# Altium footprint library ESP32-PicoDK.PcbLib: 20 footprints (part 1 of 2)
Each footprint in its own frame and in the unit in brackets; x right, y up, seen from the top. Pads: shape width x height; smd on the part's side, far side on the other; paste and mask are expansions set on the pad; w line width, h text height; cw(c..) or ccw(c..) is an arc to the next point about the centre after c.
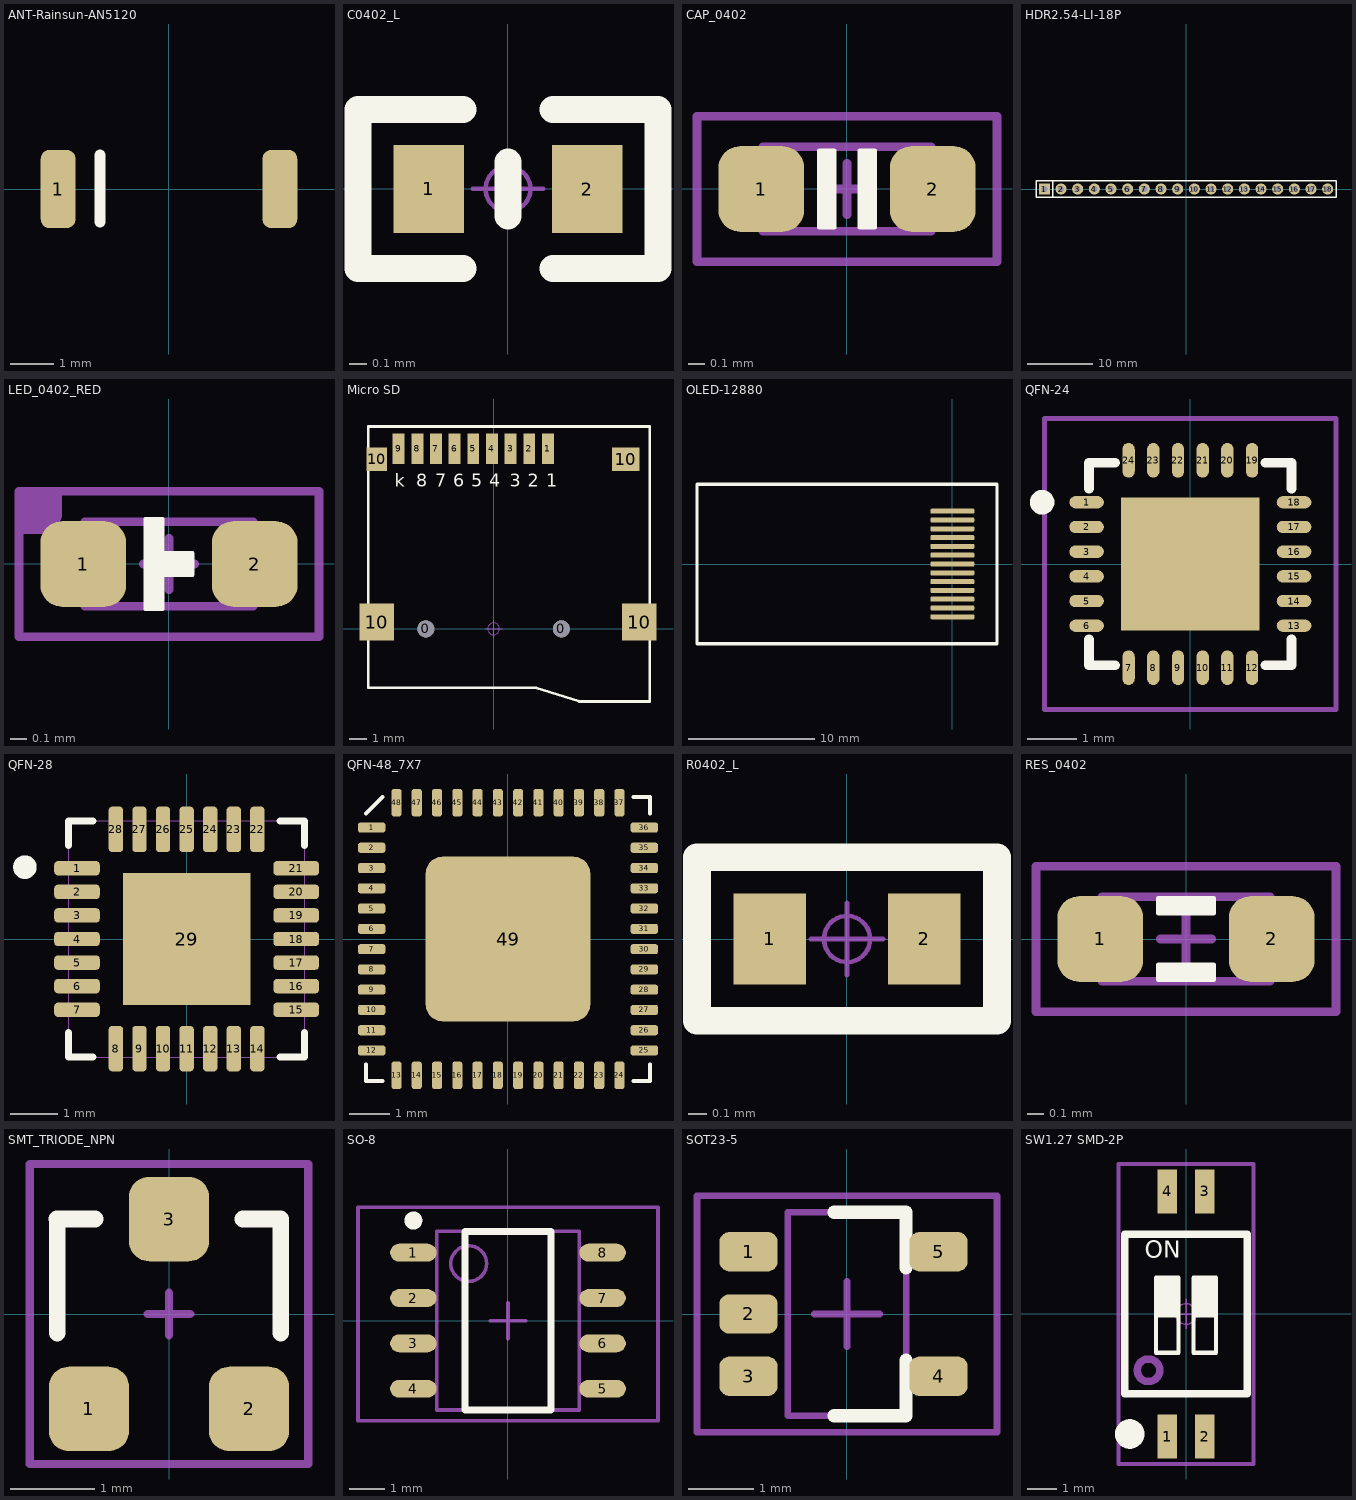
[diagram p0: the footprints below, top view; thin cyan lines are the x and y axes]

## ANT-Rainsun-AN5120 [mm] "选择焊盘"
height 4.3
pads (2):
  rrect50% 0.8x1.8 smd: 1(-2.54,0) ""(2.563,0)
Top Overlay:
  lines w0.254: -1.575,-0.762 -1.575,0.787
3D body "123.stp": height 1.32, standoff -0.01, extent -2.573,-0.911 2.542,0.935

## C0402_L [mm] "无极性贴片电容"
height 1.5
pads (2):
  rect 0.4x0.5 smd: 1(-0.45,0) 2(0.45,0)
Top Overlay:
  lines w0.152: -0.254,-0.45 -0.85,-0.45 ; -0.254,0.45 -0.85,0.45 -0.85,-0.45 ; 0,-0.152 0,0.152 ; 0.254,-0.45 0.85,-0.45 0.85,0.45 0.254,0.45 ; -0.85,-0.45 -0.85,-0.45
Mechanical 15:
  circle w0.025: c0,0 r0.127
  lines w0.025: -0.2,0 0.2,0 ; 0,-0.2 0,0.2
3D body "C 0402.STEP": height 0.54, standoff 0.02, extent -0.5,-0.26 0.5,0.26

## CAP_0402 [mil]
height 21.65
pads (2):
  rrect50% 20x20 smd: 1(-20,0) 2(20,0)
Top Overlay:
  region: 6.5,-9 3,-9 3,9 6.5,9
  region: -6.5,9 -3,9 -3,-9 -6.5,-9
  lines w1: -6.5,-9 -6.5,9 -3,9 -3,-9 -6.5,-9 ; 3,-9 6.5,-9 6.5,9 3,9 3,-9
Mechanical 13:
  lines w2: -6,0 6,0 ; 0,-6 0,6 ; -19.68,-9.84 19.69,-9.84 19.69,9.84 -19.68,9.84 -19.68,-9.84
Mechanical 14:
  lines w2: -35,-17 35,-17 35,17 -35,17 -35,-17
3D body "CAPC1005X05L.step": height 19.68, standoff 0, extent -19.68,-9.84 19.69,9.85

## HDR2.54-LI-18P [mm] "排针，18脚"
height 1.5
pads (18):
  rect 1.7x1.7 hole 0.9: 1(-21.59,0)
  round 1.7 hole 0.9: 2(-19.05,0) 3(-16.51,0) 4(-13.97,0) 5(-11.43,0) 6(-8.89,0) 7(-6.35,0) 8(-3.81,0) 9(-1.27,0) 10(1.27,0) 11(3.81,0) 12(6.35,0) 13(8.89,0) 14(11.43,0) 15(13.97,0) 16(16.51,0) 17(19.05,0) 18(21.59,0)
Top Overlay:
  lines w0.2: -21.082,1.27 22.86,1.27 22.86,-1.27 -22.86,-1.27 -22.86,1.27 -20.955,1.27 ; -20.34,-1.25 -20.34,1.25
3D body "HDR2.54-1P.STEP": height 2.54, standoff -8.96, extent 20.32,-1.27 22.86,1.27
3D body "HDR2.54-1P.STEP": height 2.54, standoff -8.96, extent 17.78,-1.27 20.32,1.27
3D body "HDR2.54-1P.STEP": height 2.54, standoff -8.96, extent 15.24,-1.27 17.78,1.27
3D body "HDR2.54-1P.STEP": height 2.54, standoff -8.96, extent 12.7,-1.27 15.24,1.27
3D body "HDR2.54-1P.STEP": height 2.54, standoff -8.96, extent 10.16,-1.27 12.7,1.27
3D body "HDR2.54-1P.STEP": height 2.54, standoff -8.96, extent 7.62,-1.27 10.16,1.27
3D body "HDR2.54-1P.STEP": height 2.54, standoff -8.96, extent 5.08,-1.27 7.62,1.27
3D body "HDR2.54-1P.STEP": height 2.54, standoff -8.96, extent 2.54,-1.27 5.08,1.27
3D body "HDR2.54-1P.STEP": height 2.54, standoff -8.96, extent 0,-1.27 2.54,1.27
3D body "HDR2.54-1P.STEP": height 2.54, standoff -8.96, extent -2.54,-1.27 0,1.27
3D body "HDR2.54-1P.STEP": height 2.54, standoff -8.96, extent -5.08,-1.27 -2.54,1.27
3D body "HDR2.54-1P.STEP": height 2.54, standoff -8.96, extent -7.62,-1.27 -5.08,1.27
3D body "HDR2.54-1P.STEP": height 2.54, standoff -8.96, extent -10.16,-1.27 -7.62,1.27
3D body "HDR2.54-1P.STEP": height 2.54, standoff -8.96, extent -12.7,-1.27 -10.16,1.27
3D body "HDR2.54-1P.STEP": height 2.54, standoff -8.96, extent -15.24,-1.27 -12.7,1.27
3D body "HDR2.54-1P.STEP": height 2.54, standoff -8.96, extent -17.78,-1.27 -15.24,1.27
3D body "HDR2.54-1P.STEP": height 2.54, standoff -8.96, extent -20.32,-1.27 -17.78,1.27
3D body "HDR2.54-1P.STEP": height 2.54, standoff -8.96, extent -22.86,-1.27 -20.32,1.27

## LED_0402_RED [mil]
height 31.5
pads (2):
  rrect50% 20x20 smd: 1(-20,0) 2(20,0)
Top Overlay:
  region: -5.5,10.5 -1.5,10.5 -1.5,2.5 5.5,2.5 5.5,-2.5 -1.5,-2.5 -1.5,-10.5 -5.5,-10.5
  lines w1: -5.5,-10.5 -1.5,-10.5 -1.5,-2.5 5.5,-2.5 5.5,2.5 -1.5,2.5 -1.5,10.5 -5.5,10.5 -5.5,-10.5
Mechanical 13:
  lines w2: -6,0 6,0 ; 0,-6 0,6 ; -19.68,-9.84 -19.68,9.84 19.69,9.84 19.69,-9.84 -19.68,-9.84
Mechanical 14:
  region: -35,17 -25,17 -25,12 -25,11.01 -25.76,9.17 -27.17,7.76 -29.01,7 -30,7 -35,7
  lines w2: -35,-17 -35,17 35,17 35,-17 -35,-17
3D body "User Library-led_0402LED0402 red_.STEP": height 17.72, standoff 0, extent -19.88,-9.84 19.89,9.85

## Micro SD [mm] "淘宝ID:黄晶宝石"
height 1.5
pads (15):
  round 1 hole 1 unplated: 0(-4,0) 0(4,0)
  rect 0.7x1.8 smd: 1(3.2,10.627) 2(2.1,10.627) 3(1,10.627) 4(-0.1,10.627) 5(-1.2,10.627) 6(-2.3,10.627) 7(-3.4,10.627) 8(-4.5,10.627) 9(-5.6,10.627)
  rect 2.032x2.2 smd: 10(-6.9,0.4) 10(8.6,0.4)
  rect 1.2x1.4 smd: 10(-6.9,10)
  rect 1.6x1.4 smd: 10(7.8,10)
Top Overlay:
  lines w0.152: 2.489,-3.47 5.054,-4.283 9.204,-4.283 9.204,11.938 -7.402,11.938 -7.402,-3.47 2.514,-3.47
  text "k" at -5.842,8.382 h0.76
  text "8" at -4.572,8.382 h0.76
  text "7" at -3.455,8.382 h0.76
  text "6" at -2.388,8.382 h0.76
  text "5" at -1.321,8.382 h0.76
  text "4" at -0.254,8.382 h0.76
  text "3" at 0.939,8.382 h0.76
  text "2" at 2.006,8.382 h0.76
  text "1" at 3.098,8.382 h0.76
Mechanical 15:
  circle w0.05: c0,0 r0.35
  lines w0.05: -0.5,0 0.5,0 ; 0,-0.5 0,0.5
3D body "TF.STEP": height 2, standoff -0.45, extent -7.05,-3.873 8.95,11.377

## OLED-12880 [mm]
height 4.3
pads (13):
  rrect50% 3.5x0.4 smd: 1(0,-4.2) 2(0,-3.5) 3(0,-2.8) 4(0,-2.1) 5(0,-1.4) 6(0,-0.7) 7(0,0) 8(0,0.7) 9(0,1.4) 10(0,2.1) 11(0,2.8) 12(0,3.5) 13(0,4.2)
Top Overlay:
  lines w0.254: -20.32,-6.35 3.556,-6.35 3.556,6.35 -20.32,6.35 -20.32,-6.35
3D body "Ctrl-DualBoard-Down v1.step": height 1.55, standoff 0.09, extent -20.182,-6.25 7.54,6.25

## QFN-24 [mm] "QFN, 24-Leads, Body 4.1x4.1mm (max), Pitch 0.50mm, IPC Low Density"
height 0.95
pads (25):
  oval 0.7x0.25 smd: 1(-2.1,1.25) 2(-2.1,0.75) 3(-2.1,0.25) 4(-2.1,-0.25) 5(-2.1,-0.75) 6(-2.1,-1.25) 13(2.1,-1.25) 14(2.1,-0.75) 15(2.1,-0.25) 16(2.1,0.25) 17(2.1,0.75) 18(2.1,1.25)
  oval 0.25x0.7 smd: 7(-1.25,-2.1) 8(-0.75,-2.1) 9(-0.25,-2.1) 10(0.25,-2.1) 11(0.75,-2.1) 12(1.25,-2.1) 19(1.25,2.1) 20(0.75,2.1) 21(0.25,2.1) 22(-0.25,2.1) 23(-0.75,2.1) 24(-1.25,2.1)
  rect 2.8x2.7 smd: ""(0,0)
Top Overlay:
  circle w0.25: c-3,1.25 r0.125
  lines w0.2: -2.05,-1.525 -2.05,-2.05 -1.525,-2.05 ; -2.05,1.525 -2.05,2.05 -1.525,2.05 ; 1.525,-2.05 2.05,-2.05 2.05,-1.525 ; 1.525,2.05 2.05,2.05 2.05,1.525
Mechanical 15:
  lines w0.1: -0.5,0 0.5,0 ; 0,-0.5 0,0.5 ; -2.95,-2.95 2.95,-2.95 2.95,2.95 -2.95,2.95 -2.95,-2.95
3D body "User Library-mpu-6050_qfn-24.stp": height 0.95, standoff 0.05, extent -2.02,-2.02 2.02,2.02

## QFN-28 [mil]
height 169.29
pads (29):
  rrect50% 38x12 smd mask+5: 1(-91.5,59.05) 2(-91.5,39.37) 3(-91.5,19.68) 4(-91.5,0) 5(-91.5,-19.69) 6(-91.5,-39.37) 7(-91.5,-59.06) 15(91.5,-59.06) 16(91.5,-39.37) 17(91.5,-19.69) 18(91.5,0) 19(91.5,19.68) 20(91.5,39.37) 21(91.5,59.05)
  rrect50% 12x38 smd mask+5: 8(-59.05,-91.5) 9(-39.37,-91.5) 10(-19.68,-91.5) 11(0,-91.5) 12(19.69,-91.5) 13(39.37,-91.5) 14(59.06,-91.5) 22(59.06,91.5) 23(39.37,91.5) 24(19.69,91.5) 25(0,91.5) 26(-19.68,91.5) 27(-39.37,91.5) 28(-59.05,91.5)
  rect 106.3x110.24 smd: 29(0,0)
Top Overlay:
  circle w9.84: c-135,60 r4.92
  lines w6: -98.5,-78.16 -98.5,-98.5 -78.15,-98.5 ; -98.5,78.15 -98.5,98.5 -78.15,98.5 ; 78.16,-98.5 98.5,-98.5 98.5,-78.16 ; 78.16,98.5 98.5,98.5 98.5,78.15
Mechanical 1:
  lines w0: -98.5,-98.5 98.5,-98.5 98.5,98.5 -98.5,98.5 -98.5,-98.5 ; -98.5,-65.06 -98.5,-53.06 -98.5,-65.06 ; -98.5,-45.37 -98.5,-33.37 -98.5,-45.37 ; -98.5,-25.69 -98.5,-13.69 -98.5,-25.69 ; -98.5,-6 -98.5,6 -98.5,-6 ; -98.5,13.68 -98.5,25.68 -98.5,13.68 ; -98.5,33.37 -98.5,45.37 -98.5,33.37 ; -98.5,53.05 -98.5,65.05 -98.5,53.05 ; -65.05,-98.5 -53.05,-98.5 -65.05,-98.5 ; -65.05,98.5 -53.05,98.5 -65.05,98.5 ; -45.37,-98.5 -33.37,-98.5 -45.37,-98.5 ; -45.37,98.5 -33.37,98.5 -45.37,98.5 ; -25.68,-98.5 -13.68,-98.5 -25.68,-98.5 ; -25.68,98.5 -13.68,98.5 -25.68,98.5 ; -6,-98.5 6,-98.5 -6,-98.5 ; -6,98.5 6,98.5 -6,98.5 ; 13.69,-98.5 25.69,-98.5 13.69,-98.5 ; 13.69,98.5 25.69,98.5 13.69,98.5 ; 33.37,-98.5 45.37,-98.5 33.37,-98.5 ; 33.37,98.5 45.37,98.5 33.37,98.5 ; 53.06,-98.5 65.06,-98.5 53.06,-98.5 ; 53.06,98.5 65.06,98.5 53.06,98.5 ; 98.5,-65.06 98.5,-53.06 98.5,-65.06 ; 98.5,-45.37 98.5,-33.37 98.5,-45.37 ; 98.5,-25.69 98.5,-13.69 98.5,-25.69 ; 98.5,-6 98.5,6 98.5,-6 ; 98.5,13.68 98.5,25.68 98.5,13.68 ; 98.5,33.37 98.5,45.37 98.5,33.37 ; 98.5,53.05 98.5,65.05 98.5,53.05
3D body "321.stp": height 35.43, standoff 0, extent -98.5,-98.5 98.35,98.35

## QFN-48_7X7 [mm]
height 4.3
pads (49):
  rrect50% 0.675x0.25 smd: 1(-3.362,2.75) 2(-3.362,2.25) 3(-3.362,1.75) 4(-3.362,1.25) 5(-3.362,0.75) 6(-3.362,0.25) 7(-3.362,-0.25) 8(-3.362,-0.75) 9(-3.362,-1.25) 10(-3.362,-1.75) 11(-3.362,-2.25) 12(-3.362,-2.75) 25(3.363,-2.75) 26(3.363,-2.25) 27(3.363,-1.75) 28(3.363,-1.25) 29(3.363,-0.75) 30(3.363,-0.25) 31(3.363,0.25) 32(3.363,0.75) 33(3.363,1.25) 34(3.363,1.75) 35(3.363,2.25) 36(3.363,2.75)
  rrect50% 0.25x0.675 smd: 13(-2.75,-3.362) 14(-2.25,-3.362) 15(-1.75,-3.362) 16(-1.25,-3.362) 17(-0.75,-3.362) 18(-0.25,-3.362) 19(0.25,-3.362) 20(0.75,-3.362) 21(1.25,-3.362) 22(1.75,-3.362) 23(2.25,-3.362) 24(2.75,-3.362) 37(2.75,3.363) 38(2.25,3.363) 39(1.75,3.363) 40(1.25,3.363) 41(0.75,3.363) 42(0.25,3.363) 43(-0.25,3.363) 44(-0.75,3.363) 45(-1.25,3.363) 46(-1.75,3.363) 47(-2.25,3.363) 48(-2.75,3.363)
  rrect20% 4.064x4.064 smd: 49(0,0)
Top Overlay:
  lines w0.1: -3.5,-3.1 -3.5,-3.5 -3.1,-3.5 ; -3.5,3.1 -3.1,3.5 ; 3.1,-3.5 3.5,-3.5 3.5,-3.1 ; 3.1,3.5 3.5,3.5 3.5,3.1
3D body: height 1, standoff 0.05, extent -3.5,-3.5 3.5,3.5

## R0402_L [mm] "1/16W贴片电阻"
height 1.5
pads (2):
  rect 0.4x0.5 smd: 1(-0.425,0) 2(0.425,0)
Top Overlay:
  lines w0.152: -0.825,-0.45 0.825,-0.45 0.825,0.45 -0.825,0.45 -0.825,-0.45
Mechanical 15:
  circle w0.025: c0,0 r0.127
  lines w0.025: -0.2,0 0.2,0 ; 0,-0.2 0,0.2
3D body "R0402.STEP": height 0.3, standoff 0, extent -0.5,-0.25 0.5,0.25

## RES_0402 [mil]
height 13.78
pads (2):
  rrect50% 20x20 smd: 1(-20,0) 2(20,0)
Top Overlay:
  region: 6.5,-9.5 -6.5,-9.5 -6.5,-6 6.5,-6
  region: -6.5,9.5 6.5,9.5 6.5,6 -6.5,6
  lines w1: -6.5,-9.5 6.5,-9.5 6.5,-6 -6.5,-6 -6.5,-9.5 ; -6.5,6 -6.5,9.5 6.5,9.5 6.5,6 -6.5,6
Mechanical 13:
  lines w2: -6,0 6,0 ; 0,-6 0,6 ; -19.69,-9.84 -19.69,9.84 19.68,9.84 19.68,-9.84 -19.69,-9.84
Mechanical 14:
  lines w2: -35,-17 35,-17 35,17 -35,17 -35,-17
3D body "RESC1005X03L.step": height 13.78, standoff 0, extent -19.68,-9.84 19.69,9.85

## SMT_TRIODE_NPN [mm] "Surface mount NPN transistor, package SOT-23"
height 1.1
pads (3):
  rrect50% 0.95x1 smd: 1(-0.95,-1.125) 2(0.95,-1.125) 3(0,1.125)
Top Overlay:
  lines w0.2: -1.328,1.125 -0.875,1.125 ; -1.325,-0.225 -1.325,1.125 ; 0.875,1.125 1.325,1.125 1.325,-0.225
Mechanical 15:
  lines w0.1: -0.254,0 0.254,0 ; 0,-0.254 0,0.254 ; -1.651,-1.778 1.651,-1.778 1.651,1.778 -1.651,1.778 -1.651,-1.778
3D body "User Library-SOT23-3.step": height 1.3, standoff 0, extent -1.448,-1.397 1.452,1.403

## SO-8 [mm]
height 4.3
pads (8):
  oval 1.3x0.5 smd: 1(-2.65,1.905) 2(-2.65,0.635) 3(-2.65,-0.635) 4(-2.65,-1.905) 5(2.65,-1.905) 6(2.65,-0.635) 7(2.65,0.635) 8(2.65,1.905)
Top Overlay:
  circle w0.25: c-2.65,2.805 r0.125
  lines w0.2: -1.2,-2.5 1.2,-2.5 1.2,2.5 -1.2,2.5 -1.2,-2.5
Mechanical 13:
  circle w0.1: c-1.1,1.6 r0.5
  lines w0.1: -2,-2.5 2,-2.5 2,2.5 -2,2.5 -2,-2.5
Mechanical 15:
  lines w0.1: -0.5,0 0.5,0 ; 0,-0.5 0,0.5 ; -4.2,-2.8 4.2,-2.8 4.2,3.175 -4.2,3.175 -4.2,-2.8
3D body "SW3DPS-SO-8-DEFAULT.STEP": height 1.45, standoff 0, extent -2.889,-2.439 2.889,2.464

## SOT23-5 [mm] "SOT23, 3-Leads, Body 3.1x3.0mm (max), Pitch 0.95mm, IPC Medium Density"
height 1.2
pads (5):
  rrect50% 0.889x0.6 smd: 1(-1.5,0.95) 2(-1.5,0) 3(-1.5,-0.95) 4(1.396,-0.95) 5(1.396,0.95)
Top Overlay:
  lines w0.2: -0.2,-1.55 0.9,-1.55 0.9,-0.7 ; -0.2,1.55 0.9,1.55 0.9,0.7
Mechanical 13:
  lines w0.1: -0.9,-1.55 -0.9,1.55 0.9,1.55 0.9,-1.55 -0.9,-1.55
Mechanical 15:
  lines w0.1: -0.5,0 0.5,0 ; 0,-0.5 0,0.5 ; -2.286,-1.8 -2.286,1.8 2.286,1.8 2.286,-1.8 -2.286,-1.8
3D body "PCB1.stp": height 1.2, standoff 0, extent -1.476,-1.452 1.324,1.448

## SW1.27 SMD-2P [mm] "长：4.14mm，宽：5.4mm，高：2.3mm"
height 1.5
pads (4):
  rect 0.65x1.5 smd: 1(-0.635,-4.15) 2(0.635,-4.15) 3(0.635,4.15) 4(-0.635,4.15)
Top Overlay:
  circle w0.5: c-1.905,-4.064 r0.25
  region: 1.016,1.225 0.254,1.225 0.254,-0.045 1.016,-0.045
  region: -0.254,1.225 -1.016,1.225 -1.016,-0.045 -0.254,-0.045
  lines w0.15: -1.016,-0.045 -0.254,-0.045 ; 0.254,-0.045 1.016,-0.045 ; -1.016,-1.315 -1.016,1.225 -0.254,1.225 -0.254,-1.315 -1.016,-1.315 ; 0.254,-1.315 0.254,1.225 1.016,1.225 1.016,-1.315 0.254,-1.315
  lines w0.254: -2.07,-2.7 2.07,-2.7 2.07,2.7 -2.07,2.7 -2.07,-2.7
  text "ON" at -1.397,1.696 h1
Mechanical 13:
  circle w0.254: c-1.27,-1.905 r0.381
  lines w0.15: -2.032,-2.7 -2.032,2.7 2.032,2.7 2.032,-2.7 -2.032,-2.7
Mechanical 15:
  circle w0.05: c0,0 r0.35
  lines w0.05: -0.5,0 0.5,0 ; 0,-0.5 0,0.5
  lines w0.15: -2.286,-5.08 -2.286,5.08 2.286,5.08 2.286,-5.08 2.159,-5.08 -2.286,-5.08
3D body "SW1.27-SMD-2P_asm.STEP": height 2.35, standoff 0, extent -2.07,-4.35 2.07,4.35